# EAGLE library part 20-PIN-CARD-EDGE (library 20-PIN-CARD-EDGE)
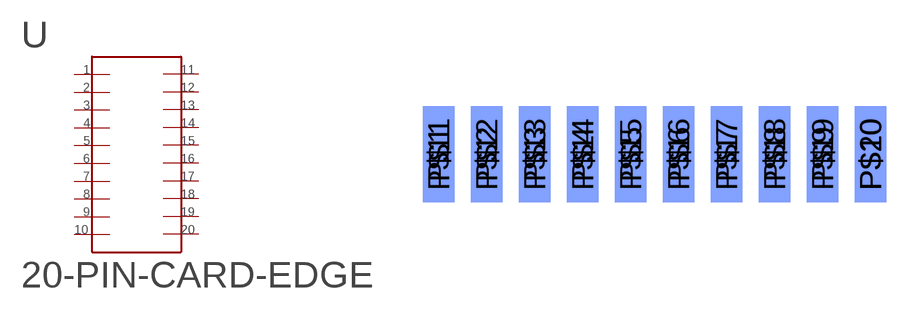
[diagram p0: symbol with the pads of 20-PIN-CARD-EDGE; footprint 20-PIN-CARD-EDGE]

Designator prefix -

## 20-PIN-CARD-EDGE  [20-PIN-CARD-EDGE]
P$1  P$1
P$2  P$2
P$3  P$3
P$4  P$4
P$5  P$5
P$6  P$6
P$7  P$7
P$8  P$8
P$9  P$9
P$10  P$10
P$11  P$11
P$12  P$12
P$13  P$13
P$14  P$14
P$15  P$15
P$16  P$16
P$17  P$17
P$18  P$18
P$19  P$19
P$20  P$20

## Footprint 20-PIN-CARD-EDGE (pad centres in mm)
smd 1.651 x 5.08: P$1 0,0; P$2 2.54,0; P$3 5.08,0; P$4 7.62,0; P$5 10.16,0; P$6 12.7,0; P$7 15.24,0; P$8 17.78,0; P$9 20.32,0; P$10 22.86,0
smd 1.651 x 5.08 bottom: P$11 0,0; P$12 2.54,0; P$13 5.08,0; P$14 7.62,0; P$15 10.16,0; P$16 12.7,0; P$17 15.24,0; P$18 17.78,0; P$19 20.32,0; P$20 22.86,0